# EAGLE library part MCU_ATSAM4S8B (library FA3D_LIB)
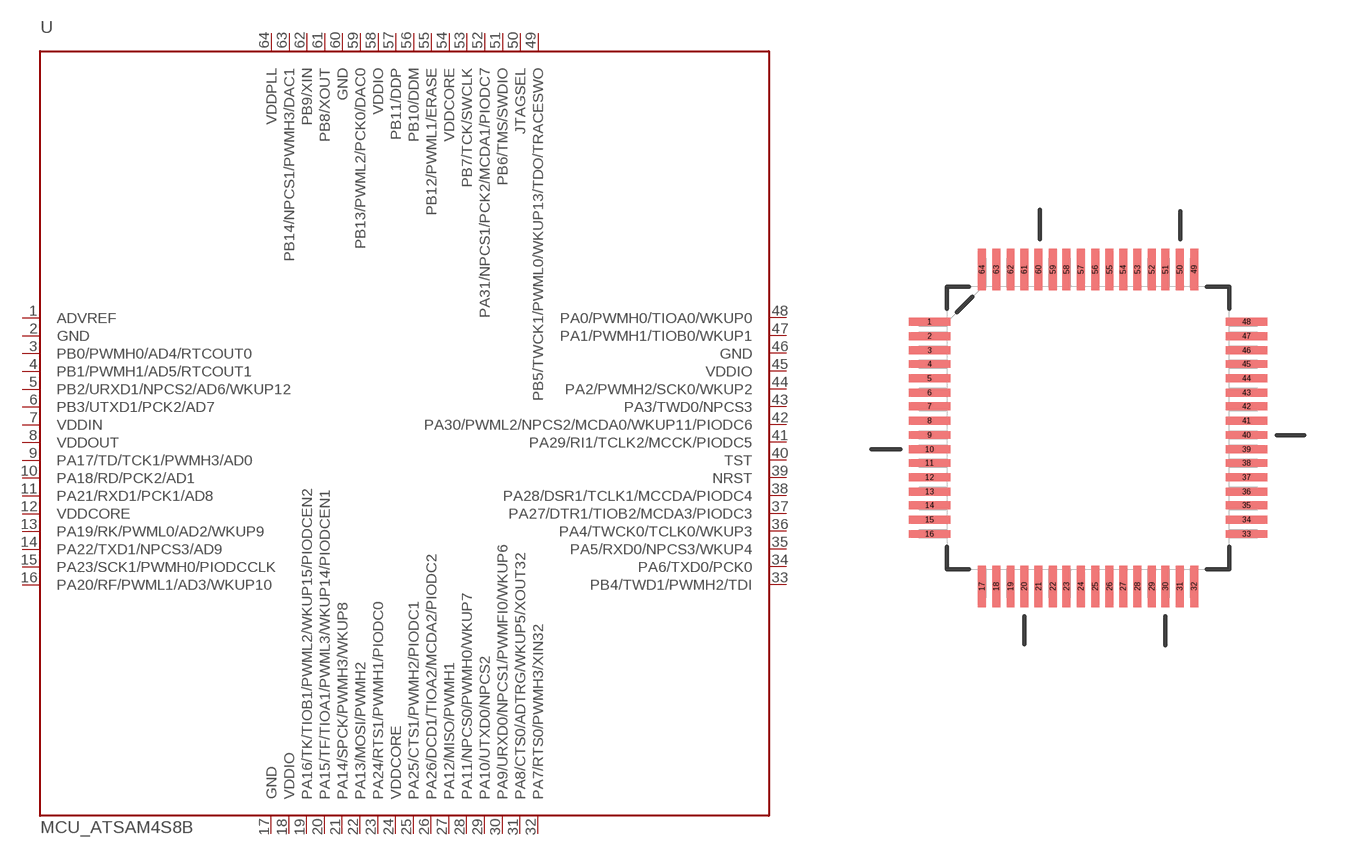
[diagram p0: symbol with the pads of QFP50P1200X1200X160-64N; footprint QFP50P1200X1200X160-64N]

Designator prefix -

## MCU_ATSAM4S8B  [QFP50P1200X1200X160-64N]
1  ADVREF
2  GND
3  PB0/PWMH0/AD4/RTCOUT0
4  PB1/PWMH1/AD5/RTCOUT1
5  PB2/URXD1/NPCS2/AD6/WKUP12
6  PB3/UTXD1/PCK2/AD7
7  VDDIN
8  VDDOUT
9  PA17/TD/TCK1/PWMH3/AD0
10  PA18/RD/PCK2/AD1
11  PA21/RXD1/PCK1/AD8
12  VDDCORE
13  PA19/RK/PWML0/AD2/WKUP9
14  PA22/TXD1/NPCS3/AD9
15  PA23/SCK1/PWMH0/PIODCCLK
16  PA20/RF/PWML1/AD3/WKUP10
17  GND
18  VDDIO
19  PA16/TK/TIOB1/PWML2/WKUP15/PIODCEN2
20  PA15/TF/TIOA1/PWML3/WKUP14/PIODCEN1
21  PA14/SPCK/PWMH3/WKUP8
22  PA13/MOSI/PWMH2
23  PA24/RTS1/PWMH1/PIODC0
24  VDDCORE
25  PA25/CTS1/PWMH2/PIODC1
26  PA26/DCD1/TIOA2/MCDA2/PIODC2
27  PA12/MISO/PWMH1
28  PA11/NPCS0/PWMH0/WKUP7
29  PA10/UTXD0/NPCS2
30  PA9/URXD0/NPCS1/PWMFI0/WKUP6
31  PA8/CTS0/ADTRG/WKUP5/XOUT32
32  PA7/RTS0/PWMH3/XIN32
33  PB4/TWD1/PWMH2/TDI
34  PA6/TXD0/PCK0
35  PA5/RXD0/NPCS3/WKUP4
36  PA4/TWCK0/TCLK0/WKUP3
37  PA27/DTR1/TIOB2/MCDA3/PIODC3
38  PA28/DSR1/TCLK1/MCCDA/PIODC4
39  NRST
40  TST
41  PA29/RI1/TCLK2/MCCK/PIODC5
42  PA30/PWML2/NPCS2/MCDA0/WKUP11/PIODC6
43  PA3/TWD0/NPCS3
44  PA2/PWMH2/SCK0/WKUP2
45  VDDIO
46  GND
47  PA1/PWMH1/TIOB0/WKUP1
48  PA0/PWMH0/TIOA0/WKUP0
49  PB5/TWCK1/PWML0/WKUP13/TDO/TRACESWO
50  JTAGSEL
51  PB6/TMS/SWDIO
52  PA31/NPCS1/PCK2/MCDA1/PIODC7
53  PB7/TCK/SWCLK
54  VDDCORE
55  PB12/PWML1/ERASE
56  PB10/DDM
57  PB11/DDP
58  VDDIO
59  PB13/PWML2/PCK0/DAC0
60  GND
61  PB8/XOUT
62  PB9/XIN
63  PB14/NPCS1/PWMH3/DAC1
64  VDDPLL

## Footprint QFP50P1200X1200X160-64N (pad centres in mm)
smd 1.473 x 0.279: 1 -5.613,3.759; 2 -5.613,3.251; 3 -5.613,2.743; 4 -5.613,2.261; 5 -5.613,1.753; 6 -5.613,1.245; 7 -5.613,0.762; 8 -5.613,0.254; 9 -5.613,-0.254; 10 -5.613,-0.762; 11 -5.613,-1.245; 12 -5.613,-1.753; 13 -5.613,-2.261; 14 -5.613,-2.743; 15 -5.613,-3.251; 16 -5.613,-3.759; 33 5.613,-3.759; 34 5.613,-3.251; 35 5.613,-2.743; 36 5.613,-2.261; 37 5.613,-1.753; 38 5.613,-1.245; 39 5.613,-0.762; 40 5.613,-0.254; 41 5.613,0.254; 42 5.613,0.762; 43 5.613,1.245; 44 5.613,1.753; 45 5.613,2.261; 46 5.613,2.743; 47 5.613,3.251; 48 5.613,3.759
smd 0.279 x 1.473: 17 -3.759,-5.613; 18 -3.251,-5.613; 19 -2.743,-5.613; 20 -2.261,-5.613; 21 -1.753,-5.613; 22 -1.245,-5.613; 23 -0.762,-5.613; 24 -0.254,-5.613; 25 0.254,-5.613; 26 0.762,-5.613; 27 1.245,-5.613; 28 1.753,-5.613; 29 2.261,-5.613; 30 2.743,-5.613; 31 3.251,-5.613; 32 3.759,-5.613; 49 3.759,5.613; 50 3.251,5.613; 51 2.743,5.613; 52 2.261,5.613; 53 1.753,5.613; 54 1.245,5.613; 55 0.762,5.613; 56 0.254,5.613; 57 -0.254,5.613; 58 -0.762,5.613; 59 -1.245,5.613; 60 -1.753,5.613; 61 -2.261,5.613; 62 -2.743,5.613; 63 -3.251,5.613; 64 -3.759,5.613